# Altium footprint library MCP2561-E_SN.PcbLib: 2 footprints
Each footprint in its own frame and in the unit in brackets; x right, y up, seen from the top. Pads: shape width x height; smd on the part's side, far side on the other; paste and mask are expansions set on the pad; w line width, h text height; cw(c..) or ccw(c..) is an arc to the next point about the centre after c.
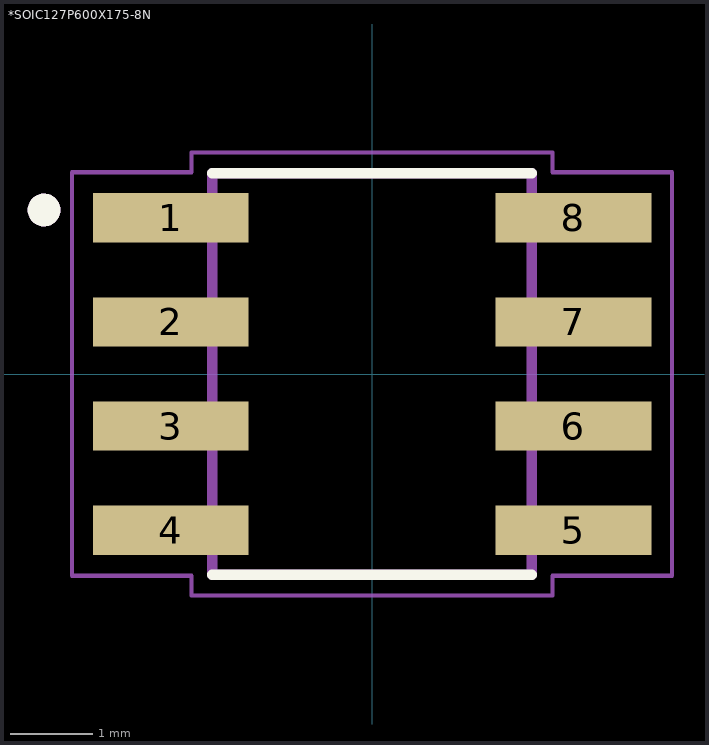
[diagram p0: the footprints below, top view; thin cyan lines are the x and y axes]

## *SOIC127P600X175-8N [mm]
pads (8):
  rect 1.9x0.6 smd: 1(-2.455,1.905) 2(-2.455,0.635) 3(-2.455,-0.635) 4(-2.455,-1.905) 5(2.455,-1.905) 6(2.455,-0.635) 7(2.455,0.635) 8(2.455,1.905)
Top Overlay:
  circle w0.2: c-4,2 r0.1
  lines w0.127: -1.95,-2.45 1.95,-2.45 ; -1.95,2.45 1.95,2.45
Mechanical 4:
  circle w0.2: c-4,2 r0.1
  circle w0.2: c-4,2 r0.1
  lines w0.127: -1.95,-2.45 -1.95,2.45 ; -1.95,-2.45 1.95,-2.45 ; -1.95,-2.45 -1.95,2.45 ; -1.95,-2.45 1.95,-2.45 ; -1.95,2.45 1.95,2.45 ; -1.95,2.45 1.95,2.45 ; 1.95,-2.45 1.95,2.45 ; 1.95,-2.45 1.95,2.45
Mechanical 16:
  lines w0.05: -3.66,-2.46 -2.2,-2.46 -2.2,-2.7 2.2,-2.7 2.2,-2.46 3.66,-2.46 3.66,2.46 2.2,2.46 2.2,2.7 -2.2,2.7 -2.2,2.46 -3.66,2.46 -3.66,-2.46

## PCBComponent_1 [mm]